# EAGLE library part LPR510AL_DEV (library MDB_HOME)
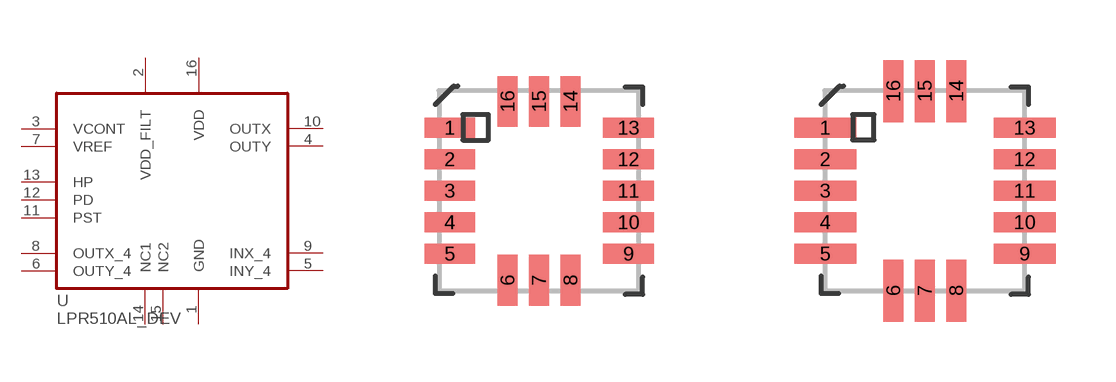
[diagram p0: symbol with the pads of LGA16; footprints LGA16, LGA16_LONG]

Designator prefix -

## LPR510AL_DEV_SELF  [LGA16]
1  GND
2  VDD_FILT
3  VCONT
4  OUTY
5  INY_4
6  OUTY_4
7  VREF
8  OUTX_4
9  INX_4
10  OUTX
11  PST
12  PD
13  HP
14  NC1
15  NC2
16  VDD

## LPR510AL_DEV_LONG  [LGA16_LONG]
Pads as for LGA16

## Footprint LGA16 (pad centres in mm)
LGA16 for LY530AL
smd 1.27 x 0.508: 1 -2.235,1.575; 2 -2.235,0.787; 3 -2.235,0; 4 -2.235,-0.787; 5 -2.235,-1.575; 9 2.235,-1.575; 10 2.235,-0.787; 11 2.235,0; 12 2.235,0.787; 13 2.235,1.575
smd 0.508 x 1.27: 6 -0.787,-2.235; 7 0,-2.235; 8 0.787,-2.235; 14 0.787,2.235; 15 0,2.235; 16 -0.787,2.235

## Footprint LGA16_LONG (pad centres in mm)
smd 1.55 x 0.508: 1 -2.494,1.575; 2 -2.494,0.787; 3 -2.494,0; 4 -2.494,-0.787; 5 -2.494,-1.575; 9 2.494,-1.575; 10 2.494,-0.787; 11 2.494,0; 12 2.494,0.787; 13 2.494,1.575
smd 0.508 x 1.55: 6 -0.787,-2.494; 7 0,-2.494; 8 0.787,-2.494; 14 0.787,2.494; 15 0,2.494; 16 -0.787,2.494